# Altium schematic symbol library SchLib.SchLib: 8 symbols
Pins are listed as number, name and electrical type; pins without a type are passive.

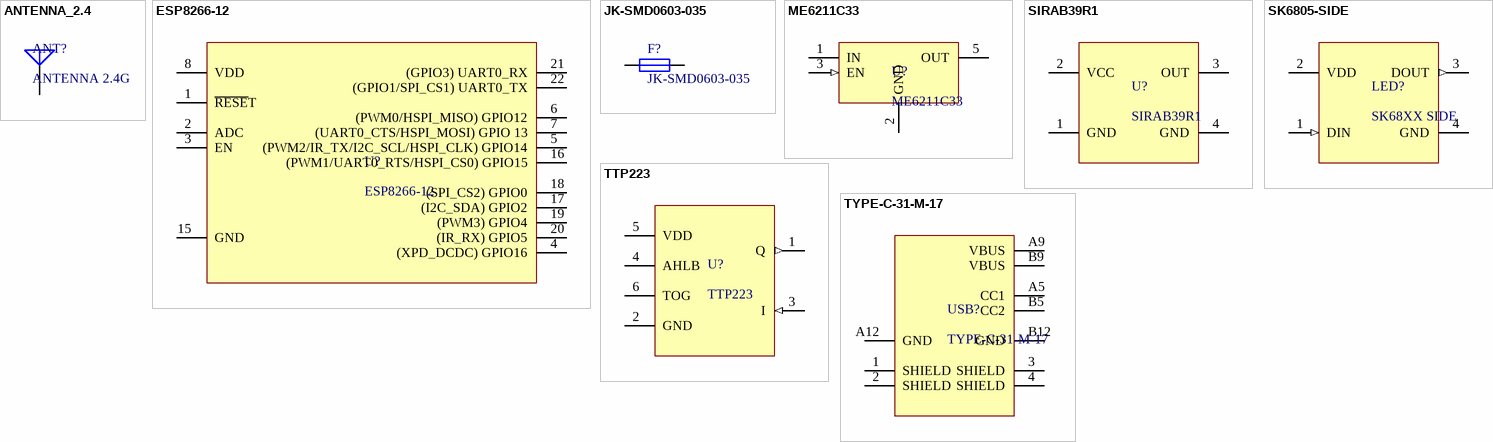
[diagram p0: symbols ANTENNA_2.4 to TYPE-C-31-M-17]

## ANTENNA_2.4
designator ANT?, comment ANTENNA 2.4G
footprint Texas_SWRA117D_2.4GHz_Right
pins: 1 SIGNAL

## ESP8266-12
designator U?
footprint ESP-12E
pins: 1 ~{RESE}T, 2 ADC, 3 EN, 4 (XPD_DCDC) GPIO16, 5 (PWM2/IR_TX/I2C_SCL/HSPI_CLK) GPIO14, 6 (PWM0/HSPI_MISO) GPIO12, 7 (UART0_CTS/HSPI_MOSI) GPIO 13, 8 VDD, 15 GND, 16 (PWM1/UART0_RTS/HSPI_CS0) GPIO15, 17 (I2C_SDA) GPIO2, 18 (SPI_CS2) GPIO0, 19 (PWM3) GPIO4, 20 (IR_RX) GPIO5, 21 (GPIO3) UART0_RX, 22 (GPIO1/SPI_CS1) UART0_TX

## JK-SMD0603-035
designator F?
PTC Resettable Fuse; Manufacturer: Jinrui Electronic Materials Co.; Voltage - Max: 6V; Current - Max: 40A; Current - Hold (Ih): 350mA; Current - Trip (It): 750mA; Package: 0603; ComponentLink1Description: Supplier Link; ComponentLink1URL: https://lcsc.com/product-detail/PTC-Resettable-Fuses_Jinrui-Electronic-Materials-Co-JK-SMD0603-035_C369144.html; PartNumber: JK-SMD0603-035; SuppliersPartNumber: C369144; Supplier: LC
footprint 0603
pins: 1, 2

## ME6211C33
designator U?
LDO; Manufacturer: MICRONE(Nanjing Micro One Elec); PartNumber: ME6211C33M5G-N; Voltage - Output: 3.3V; Voltage - Input: 6V; Package: SOT-23-5; Supplier: LC; SuppliersPartNumber: C82942; ComponentLink1Description: Supplier Link; ComponentLink1URL: https://lcsc.com/product-detail/Dropout-Regulators-LDO_MICRONE-Nanjing-Micro-One-Elec-ME6211C33M5G-N_C82942.html
footprint SOT-23-5
pins: 1 IN (power), 2 GND (power), 3 EN (in), 5 OUT (power)

## SIRAB39R1
designator U?
Infrared remote receiver; Manufacturer: Hangzhou Silan Microelectronics; ComponentLink1Description: Supplier Link; ComponentLink1URL: https://lcsc.com/product-detail/Infrared-Receivers_Hangzhou-Silan-Microelectronics-SIRAB39R1_C393728.html; Package: SMD; Supplier: LC; SuppliersPartNumber: C393728; PartNumber: SIRAB39R1
footprint SMD_SIRAB39R1
pins: 1 GND, 2 VCC, 3 OUT, 4 GND

## SK6805-SIDE
designator LED?, comment SK68XX SIDE
Addressable LED; Manufacturer: Shenzhen Normand Electronic Co.,Ltd; PartNumber: SK6812 SIDE; Supply Voltage: 5V; Current: 12mA; ComponentLink1Description: Datasheet; ComponentLink1URL: http://www.normandled.com/upload/201804/SK6812%204020%20SIDE%20LED%20Datasheet.pdf
footprint SK68XX-SIDE
pins: 1 DIN (in), 2 VDD (power), 3 DOUT (out), 4 GND (power)

## TTP223
designator U?
Touch Pad Detector IC; Manufacturer: Tontek Design Tech; PartNumber: TTP223N-HA6; ComponentLink1Description: Supplier Link; ComponentLink1URL: https://lcsc.com/product-detail/Touch-Screen-Controller-ICs_TTP223N-HA6_C93723.html; Package: SOT-23-6; SuppliersPartNumber: C93723; Supplier: LC
footprint SOT-23-6
pins: 1 Q (out), 2 GND (power), 3 I (in), 4 AHLB, 5 VDD (power), 6 TOG

## TYPE-C-31-M-17
designator USB?
USB Connectors; Manufacturer: Korean Hroparts Elec; Gender: Female; Current: 3A; Contacts: 6; Supplier: LC; PartNumber: TYPE-C-31-M-17; SuppliersPartNumber: C283540
footprint USBC
pins: 1 SHIELD, 2 SHIELD, 3 SHIELD, 4 SHIELD, A5 CC1, A9 VBUS, A12 GND, B5 CC2, B9 VBUS, B12 GND